# Altium schematic symbol library Trans Ideal.Schlib: 1 symbol
Pins are listed as number, name and electrical type; pins without a type are passive.

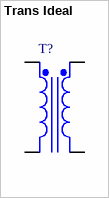
[diagram p0: symbol Trans Ideal]

## Trans Ideal
designator T?
Transformer (Ideal)
pins: 1 Pri+, 2 Pri-, 3 Sec+, 4 Sec-